# Altium footprint library PcbLib1.PcbLib: 2 footprints
Each footprint in its own frame and in the unit in brackets; x right, y up, seen from the top. Pads: shape width x height; smd on the part's side, far side on the other; paste and mask are expansions set on the pad; w line width, h text height; cw(c..) or ccw(c..) is an arc to the next point about the centre after c.
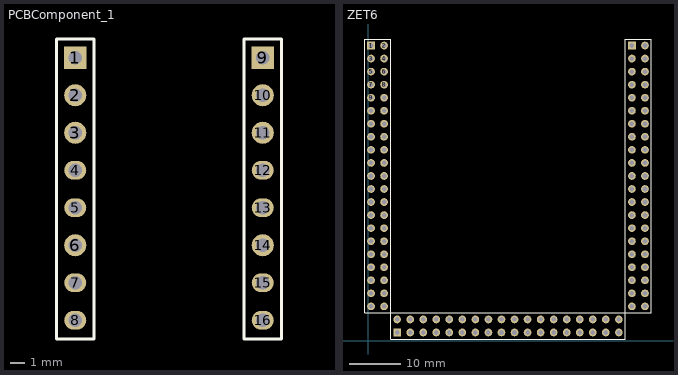
[diagram p0: the footprints below, top view; thin cyan lines are the x and y axes]

## PCBComponent_1 [mm]
pads (16):
  rect 1.5x1.5 hole 0.9: 1(5.436,92.304) 9(18.136,92.304)
  round 1.5 hole 0.9: 2(5.436,89.764) 3(5.436,87.224) 6(5.436,79.604) 10(18.136,89.764) 11(18.136,87.224) 14(18.136,79.604)
  oval 1.5x1.27 hole 0.9: 4(5.436,84.684) 5(5.436,82.144) 7(5.436,77.064) 8(5.436,74.524) 12(18.136,84.684) 13(18.136,82.144) 15(18.136,77.064) 16(18.136,74.524)
Top Overlay:
  lines w0.2: 4.166,73.254 4.166,93.574 6.706,93.574 6.706,73.254 4.166,73.254 ; 16.866,73.254 19.406,73.254 19.406,93.574 16.866,93.574 16.866,73.254
3D body "8 pin strip.STEP": height 0.7, standoff -10.9, extent 4.166,73.254 6.706,93.574
3D body "8 pin strip.STEP": height 0.7, standoff -10.9, extent 16.739,73.254 19.279,93.574

## ZET6 [mm]
pads (120):
  rect 1.5x1.5 hole 0.9: 1(0.508,57.531) 44(5.588,1.651) 120(51.308,57.531)
  round 1.5 hole 0.9: 2(3.048,57.531) 3(0.508,54.991) 4(3.048,54.991) 5(0.508,52.451) 6(3.048,52.451) 7(0.508,49.911) 8(3.048,49.911) 9(0.508,47.371) 10(3.048,47.371) 11(0.508,44.831) 12(3.048,44.831) 13(0.508,42.291) 14(3.048,42.291) 15(0.508,39.751) 16(3.048,39.751) 17(0.508,37.211) 18(3.048,37.211) 19(0.508,34.671) 20(3.048,34.671) 21(0.508,32.131) 22(3.048,32.131) 23(0.508,29.591) 24(3.048,29.591) 25(0.508,27.051) 26(3.048,27.051) 27(0.508,24.511) 28(3.048,24.511) 29(0.508,21.971) 30(3.048,21.971) 31(0.508,19.431) 32(3.048,19.431) 33(0.508,16.891) 34(3.048,16.891) 35(0.508,14.351) 36(3.048,14.351) 37(0.508,11.811) 38(3.048,11.811) 39(0.508,9.271) 40(3.048,9.271) 41(0.508,6.731) 42(3.048,6.731) 43(5.588,4.191) 45(8.128,4.191) 46(8.128,1.651) 47(10.668,4.191) 48(10.668,1.651) 49(13.208,4.191) 50(13.208,1.651) 51(15.748,4.191) 52(15.748,1.651) 53(18.288,4.191) 54(18.288,1.651) 55(20.828,4.191) 56(20.828,1.651) 57(23.368,4.191) 58(23.368,1.651) 59(25.908,4.191) 60(25.908,1.651) 61(28.448,4.191) 62(28.448,1.651) 63(30.988,4.191) 64(30.988,1.651) 65(33.528,4.191) 66(33.528,1.651) 67(36.068,4.191) 68(36.068,1.651) 69(38.608,4.191) 70(38.608,1.651) 71(41.148,4.191) 72(41.148,1.651) 73(43.688,4.191) 74(43.688,1.651) 75(46.228,4.191) 76(46.228,1.651) 77(48.768,4.191) 78(48.768,1.651) 79(53.848,6.731) 80(51.308,6.731) 81(53.848,9.271) 82(51.308,9.271) 83(53.848,11.811) 84(51.308,11.811) 85(53.848,14.351) 86(51.308,14.351) 87(53.848,16.891) 88(51.308,16.891) 89(53.848,19.431) 90(51.308,19.431) 91(53.848,21.971) 92(51.308,21.971) 93(53.848,24.511) 94(51.308,24.511) 95(53.848,27.051) 96(51.308,27.051) 97(53.848,29.591) 98(51.308,29.591) 99(53.848,32.131) 100(51.308,32.131) 101(53.848,34.671) 102(51.308,34.671) 103(53.848,37.211) 104(51.308,37.211) 105(53.848,39.751) 106(51.308,39.751) 107(53.848,42.291) 108(51.308,42.291) 109(53.848,44.831) 110(51.308,44.831) 111(53.848,47.371) 112(51.308,47.371) 113(53.848,49.911) 114(51.308,49.911) 115(53.848,52.451) 116(51.308,52.451) 117(53.848,54.991) 118(51.308,54.991) 119(53.848,57.531)
Top Overlay:
  lines w0.2: 4.318,5.461 50.038,5.461 ; 4.318,5.461 4.318,0.381 50.038,0.381 50.038,5.461 ; 4.318,5.461 -0.762,5.461 -0.762,58.801 4.318,58.801 4.318,5.461 ; 50.038,5.461 50.038,58.801 55.118,58.801 55.118,5.461 50.038,5.461